# Altium footprint library PcbParts.PcbLib: 23 footprints (part 1 of 2)
Each footprint in its own frame and in the unit in brackets; x right, y up, seen from the top. Pads: shape width x height; smd on the part's side, far side on the other; paste and mask are expansions set on the pad; w line width, h text height; cw(c..) or ccw(c..) is an arc to the next point about the centre after c.
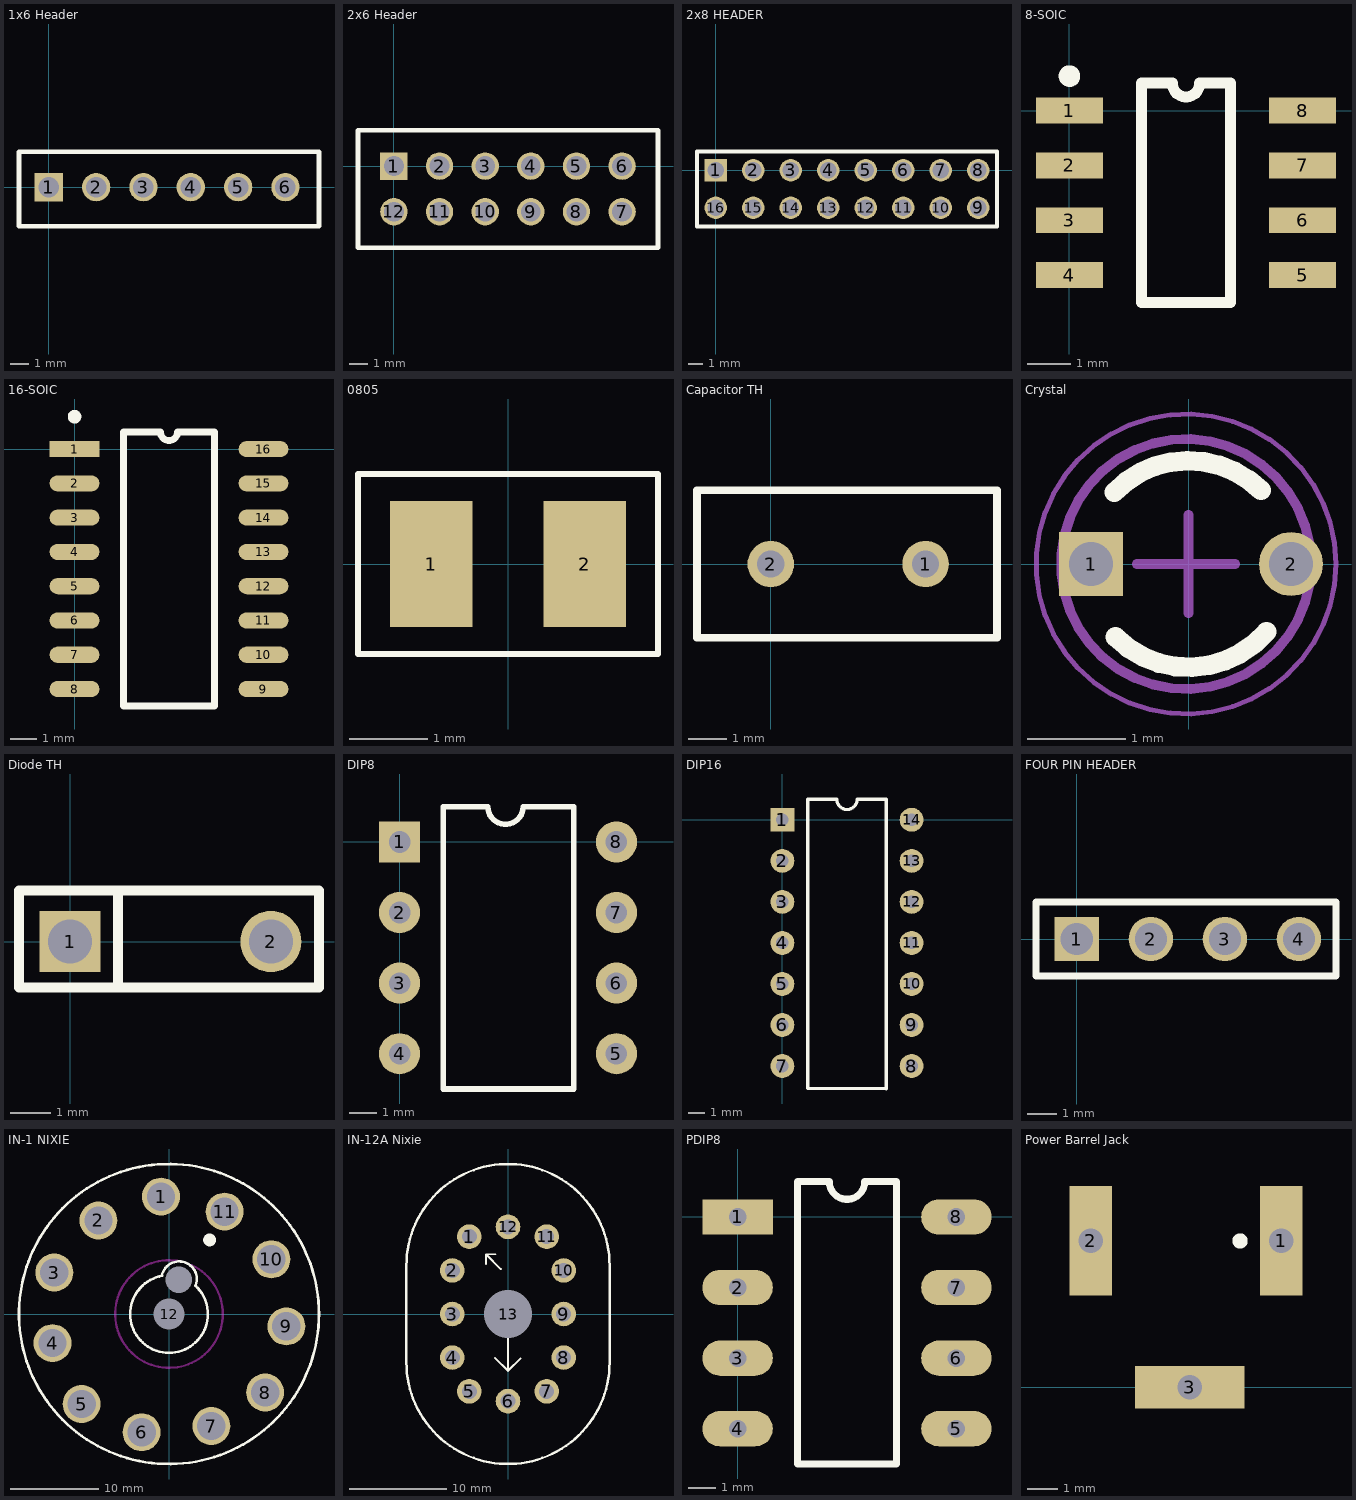
[diagram p0: the footprints below, top view; thin cyan lines are the x and y axes]

## 1x6 Header [mil]
pads (6):
  rect 60x60 hole 43.31: 1(0,0)
  round 60 hole 43.31: 2(100,0) 3(200,0) 4(300,0) 5(400,0) 6(500,0)
Top Overlay:
  lines w10: -62.99,-82.68 570.87,-82.68 570.87,-43.31 570.87,35.43 570.87,74.8 539.37,74.8 -19.68,74.8 -62.99,74.8 -62.99,-82.68

## 2x6 Header [mil]
pads (12):
  rect 60x60 hole 43.31: 1(0,0)
  round 60 hole 43.31: 2(100,0) 3(200,0) 4(300,0) 5(400,0) 6(500,0) 7(500,-100) 8(400,-100) 9(300,-100) 10(200,-100) 11(100,-100) 12(0,-100)
Top Overlay:
  lines w10: -78.74,-179.13 578.74,-179.13 578.74,78.74 -78.74,78.74 -78.74,-179.13

## 2x8 HEADER [mil]
pads (16):
  rect 60x60 hole 43.31: 1(0,0)
  round 60 hole 43.31: 2(100,0) 3(200,0) 4(300,0) 5(400,0) 6(500,0) 7(600,0) 8(700,0) 9(700,-100) 10(600,-100) 11(500,-100) 12(400,-100) 13(300,-100) 14(200,-100) 15(100,-100) 16(0,-100)
Top Overlay:
  lines w10: -50,-150 750,-150 750,50 -50,50 -50,-150

## 8-SOIC [mm]
pads (8):
  rect 1.55x0.6 smd: 1(0,0) 2(0,-1.27) 3(0,-2.54) 4(0,-3.81) 5(5.4,-3.81) 6(5.4,-2.54) 7(5.4,-1.27) 8(5.4,0)
Top Overlay:
  circle w0.3: c0,0.8 r0.1
  lines w0.254: 1.664,-4.445 3.736,-4.445 3.736,0.635 3.017,0.635 cw(c2.7,0.635) 2.382,0.635 1.664,0.635 1.664,-4.445

## 16-SOIC [mm]
pads (16):
  rect 1.85x0.6 smd: 1(0,0)
  oval 1.85x0.6 smd: 2(0,-1.27) 3(0,-2.54) 4(0,-3.81) 5(0,-5.08) 6(0,-6.35) 7(0,-7.62) 8(0,-8.89) 9(7,-8.89) 10(7,-7.62) 11(7,-6.35) 12(7,-5.08) 13(7,-3.81) 14(7,-2.54) 15(7,-1.27) 16(7,0)
Top Overlay:
  circle w0.3: c0,1.2 r0.1
  lines w0.254: 1.814,-9.525 1.814,0.635 3.183,0.635 ccw(c3.5,0.635) 3.818,0.635 5.186,0.635 5.186,-9.525 1.814,-9.525

## 0805 [mm]
pads (2):
  rect 1.05x1.6 smd: 1(-0.975,0) 2(0.975,0)
Top Overlay:
  lines w0.076: -1.905,-1.143 1.905,-1.143 1.905,1.143 -1.905,1.143 -1.905,-1.143

## Capacitor TH [mm]
pads (2):
  round 1.2 hole 0.7: 1(4,0) 2(0,0)
Top Overlay:
  lines w0.2: -1.905,-1.905 5.842,-1.905 5.842,-0.953 5.842,0.953 5.842,1.905 -1.905,1.905 -1.905,-1.905

## Crystal [mm]
pads (2):
  rect 0.65x0.65 hole 0.45: 1(-0.991,0)
  round 0.65 hole 0.45: 2(1.041,0)
Top Overlay:
  lines w0.2: -0.755,0.729 cw(c0,0) 0.736,0.749 ; -0.742,-0.742 ccw(c0,0) 0.792,-0.69
Mechanical 13:
  circle w0.1: c-0.025,0 r1.27
Mechanical 15:
  circle w0.05: c-0.025,0 r1.524
  lines w0.1: -0.525,0 0.475,0 ; 0,-0.5 0,0.5
3D body "AB26T.STEP": height 6.2, standoff -6, extent -1.075,-1.05 1.025,1.06

## Diode TH [mil]
pads (2):
  rect 60x60 hole 43.31: 1(0,0)
  round 60 hole 43.31: 2(196.85,0)
Top Overlay:
  lines w10: 47,-44 47,49 ; -50,-45 244,-45 244,50 -50,50 -50,-45

## DIP8 [mm]
pads (8):
  rect 1.48x1.48 hole 0.78: 1(0,0)
  round 1.48 hole 0.78: 2(0,-2.54) 3(0,-5.08) 4(0,-7.62) 5(7.8,-7.62) 6(7.8,-5.08) 7(7.8,-2.54) 8(7.8,0)
Top Overlay:
  lines w0.2: 1.575,-8.89 6.274,-8.89 6.274,-6.121 6.274,-1.499 6.274,1.27 4.445,1.27 cw(c3.81,1.27) 3.175,1.27 1.575,1.27 1.575,-8.89

## DIP16 [mm]
pads (14):
  rect 1.48x1.48 hole 0.78: 1(0,0)
  round 1.48 hole 0.78: 2(0,-2.54) 3(0,-5.08) 4(0,-7.62) 5(0,-10.16) 6(0,-12.7) 7(0,-15.24) 8(8,-15.24) 9(8,-12.7) 10(8,-10.16) 11(8,-7.62) 12(8,-5.08) 13(8,-2.54) 14(8,0)
Top Overlay:
  lines w0.2: 1.55,-16.637 2.762,-16.637 5.187,-16.637 6.4,-16.637 ; 1.575,-16.637 1.575,1.27 3.365,1.27 ccw(c4,1.27) 4.635,1.27 6.425,1.27 6.425,-16.662

## FOUR PIN HEADER [mil]
pads (4):
  rect 60x60 hole 43.31: 1(0,0)
  round 60 hole 43.31: 2(100,0) 3(200,0) 4(300,0)
Top Overlay:
  lines w10: -55,-50 350,-50 350,50 -55,50 -55,-50

## IN-1 NIXIE [mm]
pads (13):
  round 4.3 hole 3.2: 1(-0.9,13.3) 2(-8,10.6) 3(-13,4.7) 4(-13.2,-3.3) 5(-9.9,-10.2) 6(-3.1,-13.4) 7(4.8,-12.7) 8(10.9,-8.9) 9(13.3,-1.4) 10(11.6,6.2) 11(6.3,11.6)
  round 2.54 hole 3.5 unplated: 12(0,0)
  round 0 hole 3 unplated: 12(1.1,3.9)
Top Overlay:
  circle w0.3: c0,0 r17
  circle w1: c4.6,8.4 r0.224
  lines w0.3: -0.814,4.343 cw(c1.15,3.963) 3.036,3.298 ; -0.764,4.333 ccw(c0,0) 3.001,3.218
Keep-Out Layer:
  circle w0.254: c0,0 r6.1

## IN-12A Nixie [mm]
pads (13):
  round 2.54 hole 1.55: 1(-4,8) 2(-5.75,4.5) 3(-5.75,0) 4(-5.75,-4.5) 5(-4,-8) 6(0,-9) 7(4,-8) 8(5.75,-4.5) 9(5.75,0) 10(5.75,4.5) 11(4,8) 12(0,9)
  round 2.54 hole 5 unplated: 13(0,0)
Top Overlay:
  lines w0.203: -2.275,5.175 -2.275,6.175 ; -0.738,4.638 -2.275,6.175 ; 0,0 0,-5.875 ; 1.3,-4.575 0,-5.875 ; -2.275,6.175 -1.275,6.175 -2.275,6.175 ; 0,-5.875 -1.325,-4.55 0,-5.875 ; 0,-5.875 0,-5.875
  lines w0.254: -10.5,-5 ccw(c0,-5) 10.5,-5 10.5,5 ccw(c0,5) -10.5,5 -10.5,-5

## PDIP8 [mil]
pads (8):
  rect 100x50 hole 25: 1(0,0)
  oval 100x50 hole 25: 2(0,-100) 3(0,-200) 4(0,-300) 5(310,-300) 6(310,-200) 7(310,-100) 8(310,0)
Top Overlay:
  lines w10: 85,-350 85,50 130,50 ccw(c155,50) 180,50 225,50 225,-350 85,-350

## Power Barrel Jack [mm]
pads (3):
  rect 1.4x3.6 hole 0.8 square: 1(13.75,4.8) 2(7.5,4.8)
  rect 3.6x1.4 hole 0.8 square: 3(10.75,0)
Top Overlay:
  circle w0.3: c12.4,4.8 r0.1